# Altium footprint library IC_Analog_Devices_AD9910BSVZ_eec_IPC_C.PcbLib: 1 footprints
Each footprint in its own frame and in the unit in brackets; x right, y up, seen from the top. Pads: shape width x height; smd on the part's side, far side on the other; paste and mask are expansions set on the pad; w line width, h text height; cw(c..) or ccw(c..) is an arc to the next point about the centre after c.
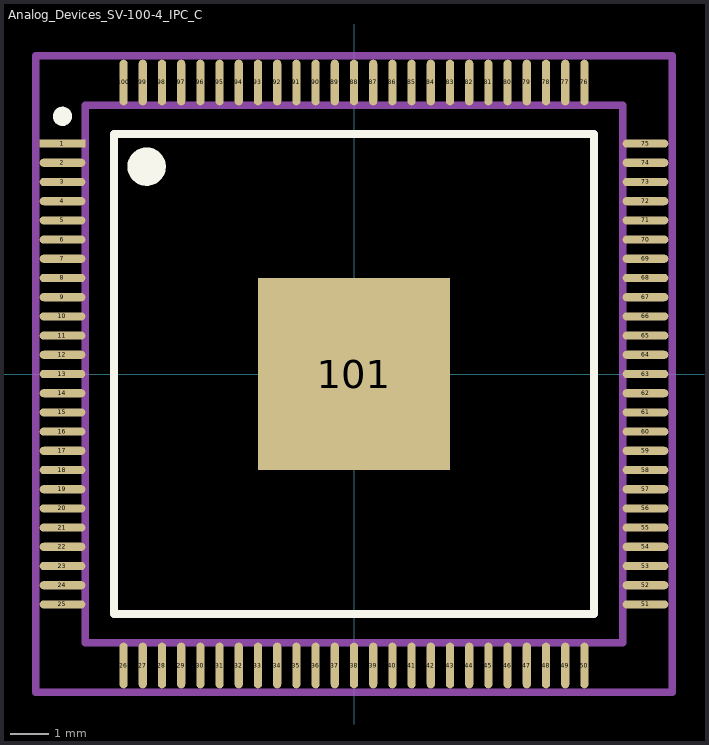
[diagram p0: the footprint, top view; thin cyan lines are the x and y axes]

## Analog_Devices_SV-100-4_IPC_C [mm]
pads (101):
  rect 1.188x0.212 smd paste+0 mask+0: 1(-7.591,6)
  rrect100% 1.188x0.212 smd paste+0 mask+0: 2(-7.591,5.5) 3(-7.591,5) 4(-7.591,4.5) 5(-7.591,4) 6(-7.591,3.5) 7(-7.591,3) 8(-7.591,2.5) 9(-7.591,2) 10(-7.591,1.5) 11(-7.591,1) 12(-7.591,0.5) 13(-7.591,0) 14(-7.591,-0.5) 15(-7.591,-1) 16(-7.591,-1.5) 17(-7.591,-2) 18(-7.591,-2.5) 19(-7.591,-3) 20(-7.591,-3.5) 21(-7.591,-4) 22(-7.591,-4.5) 23(-7.591,-5) 24(-7.591,-5.5) 25(-7.591,-6) 51(7.591,-6) 52(7.591,-5.5) 53(7.591,-5) 54(7.591,-4.5) 55(7.591,-4) 56(7.591,-3.5) 57(7.591,-3) 58(7.591,-2.5) 59(7.591,-2) 60(7.591,-1.5) 61(7.591,-1) 62(7.591,-0.5) 63(7.591,0) 64(7.591,0.5) 65(7.591,1) 66(7.591,1.5) 67(7.591,2) 68(7.591,2.5) 69(7.591,3) 70(7.591,3.5) 71(7.591,4) 72(7.591,4.5) 73(7.591,5) 74(7.591,5.5) 75(7.591,6)
  rrect100% 0.212x1.188 smd paste+0 mask+0: 26(-6,-7.591) 27(-5.5,-7.591) 28(-5,-7.591) 29(-4.5,-7.591) 30(-4,-7.591) 31(-3.5,-7.591) 32(-3,-7.591) 33(-2.5,-7.591) 34(-2,-7.591) 35(-1.5,-7.591) 36(-1,-7.591) 37(-0.5,-7.591) 38(0,-7.591) 39(0.5,-7.591) 40(1,-7.591) 41(1.5,-7.591) 42(2,-7.591) 43(2.5,-7.591) 44(3,-7.591) 45(3.5,-7.591) 46(4,-7.591) 47(4.5,-7.591) 48(5,-7.591) 49(5.5,-7.591) 50(6,-7.591) 76(6,7.591) 77(5.5,7.591) 78(5,7.591) 79(4.5,7.591) 80(4,7.591) 81(3.5,7.591) 82(3,7.591) 83(2.5,7.591) 84(2,7.591) 85(1.5,7.591) 86(1,7.591) 87(0.5,7.591) 88(0,7.591) 89(-0.5,7.591) 90(-1,7.591) 91(-1.5,7.591) 92(-2,7.591) 93(-2.5,7.591) 94(-3,7.591) 95(-3.5,7.591) 96(-4,7.591) 97(-4.5,7.591) 98(-5,7.591) 99(-5.5,7.591) 100(-6,7.591)
  rect 5x5 smd paste-1000 mask+0: 101(0,0)
Top Overlay:
  circle w0.25: c-7.591,6.71 r0.125
  circle w0.5: c-5.4,5.4 r0.25
  lines w0.2: -6.25,-6.25 6.25,-6.25 6.25,6.25 -6.25,6.25 -6.25,-6.25
Top Paste:
  rectangle: -1.887,0.306 -0.306,1.887
  rectangle: 0.306,0.306 1.887,1.887
  rectangle: -1.887,-1.887 -0.306,-0.306
  rectangle: 0.306,-1.887 1.887,-0.306
Mechanical 10:
  lines w0.2: -8.285,-8.285 8.285,-8.285 8.285,8.285 -8.285,8.285 -8.285,-8.285
  text ".Designator" at 0,0.188 h1
Mechanical 12:
  lines w0.2: -7,-7 7,-7 7,7 -7,7 -7,-7
Mechanical 15:
  lines w0.1: -0.5,0 0.5,0 ; 0,-0.5 0,0.5
  lines w0.2: -8.285,-8.285 8.285,-8.285 8.285,8.285 -8.285,8.285 -8.285,-8.285